# EAGLE library part SKY13330-397LF (library ruark2)
RF Switch IC W-CDMA SPDT 6GHz 50Ohm 12-QFN (2x2)
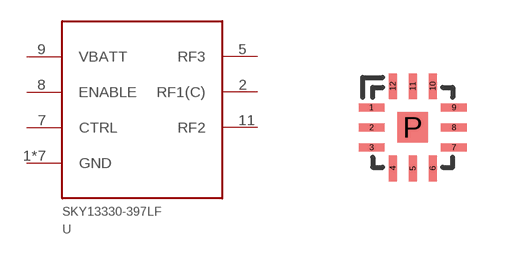
[diagram p95: symbol with the pads of 12QFN22; footprint 12QFN22]

Designator prefix U

## SKY13330-397LF (PARTNO: 863-1643-1-ND)  [12QFN22]
1  GND
2  RF1(C)
3  GND
4  GND
5  RF3
6  GND
7  CTRL
8  ENABLE
9  VBATT
10  GND
11  RF2
12  GND
P  GND

## Footprint 12QFN22 (pad centres in mm)
smd 0.64 x 0.2: 1 -1.03,0.5; 2 -1.03,0; 3 -1.03,-0.5; 7 1.03,-0.5; 8 1.03,0; 9 1.03,0.5
smd 0.2 x 0.64: 4 -0.5,-1.03; 5 0,-1.03; 6 0.5,-1.03; 10 0.5,1.03; 11 0,1.03; 12 -0.5,1.03
smd 0.76 x 0.76: P 0,0